# Altium footprint library PCB - LEADLESS - MISC - EPC 2022 Q2a.PcbLib: 35 footprints (part 3 of 3)
Each footprint in its own frame and in the unit in brackets; x right, y up, seen from the top. Pads: shape width x height; smd on the part's side, far side on the other; paste and mask are expansions set on the pad; w line width, h text height; cw(c..) or ccw(c..) is an arc to the next point about the centre after c.
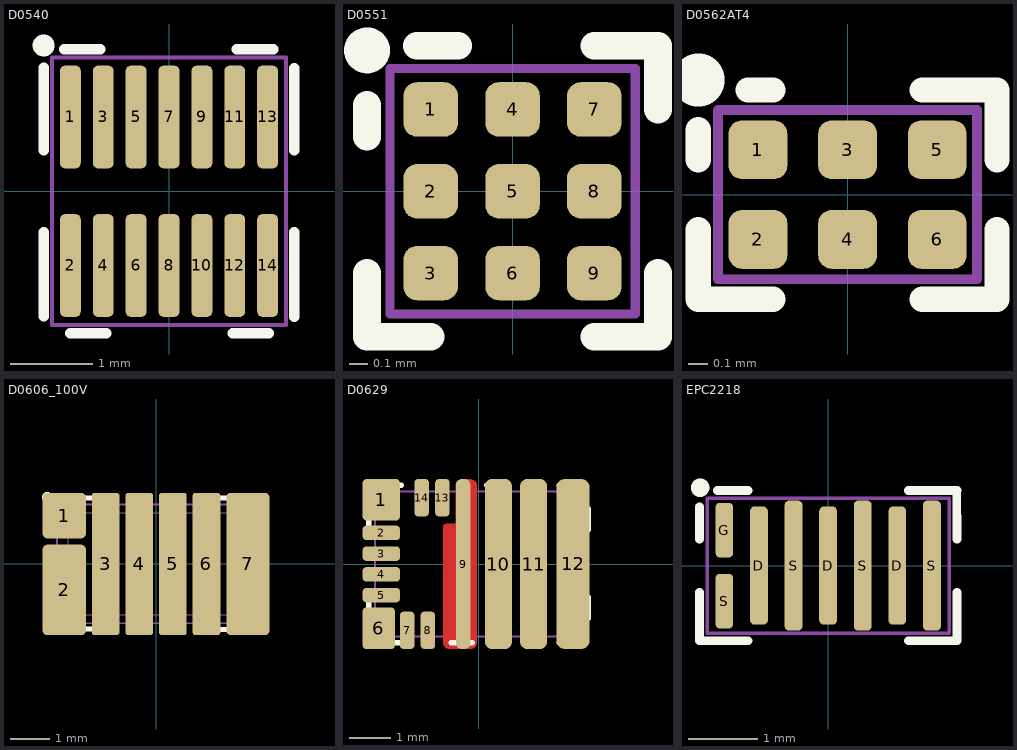
[diagram p2: the footprints below, top view; thin cyan lines are the x and y axes]

## D0540 [mm] "EPC2067"
height 0.8
pads (28):
  rrect50% 0.254x1.249 smd paste-0.037 mask-0.274: 1(-1.2,0.903) 2(-1.2,-0.903) 3(-0.8,0.903) 4(-0.8,-0.903) 5(-0.4,0.903) 7(0,0.903) 8(0,-0.903) 9(0.4,0.903) 10(0.4,-0.903) 11(0.8,0.903) 12(0.8,-0.903) 13(1.2,0.903) 14(1.2,-0.903)
  rrect50% 0.254x1.249 smd paste-0.037 mask-0.24: 6(-0.4,-0.903)
  oval 0.18x1.175 on Top Solder paste-0.18 mask+0: ""(-1.2,0.903) ""(-1.2,-0.903) ""(-0.8,0.903) ""(-0.8,-0.903) ""(-0.4,0.903) ""(-0.4,-0.903) ""(0,0.903) ""(0,-0.903) ""(0.4,0.903) ""(0.4,-0.903) ""(0.8,0.903) ""(0.8,-0.903) ""(1.2,0.903) ""(1.2,-0.903)
Top Overlay:
  circle w0.254: c-1.525,1.773 r0.006
  lines w0.127: -1.525,-1.522 -1.525,-0.5 ; -1.525,0.5 -1.525,1.5 ; -1.274,1.725 -0.833,1.725 ; -1.203,-1.725 -0.763,-1.725 ; 0.775,-1.725 1.215,-1.725 ; 0.825,1.725 1.265,1.725 ; 1.525,-1.528 1.525,-0.5 ; 1.525,0.5 1.525,1.497
Mechanical 13:
  lines w0.05: -1.425,-1.625 -1.425,1.625 1.425,1.625 1.425,-1.625 -1.425,-1.625
3D body: height 0.2, standoff 0, extent -1.297,-1.49 -1.103,-1.293
3D body: height 0.2, standoff 0, extent -1.305,-1.391 -1.096,-0.416
3D body: height 0.2, standoff 0, extent -1.297,-0.515 -1.103,-0.318
3D body: height 0.2, standoff 0, extent -0.905,-1.391 -0.696,-0.416
3D body: height 0.2, standoff 0, extent -0.097,-0.515 0.097,-0.318
3D body: height 0.2, standoff 0, extent -0.897,-1.49 -0.703,-1.293
3D body: height 0.2, standoff 0, extent -0.505,-1.391 -0.296,-0.416
3D body: height 0.2, standoff 0, extent -0.497,-0.515 -0.303,-0.318
3D body: height 0.2, standoff 0, extent -0.497,-1.49 -0.303,-1.293
3D body: height 0.2, standoff 0, extent -0.105,-1.391 0.104,-0.416
3D body: height 0.2, standoff 0, extent -0.497,0.316 -0.303,0.513
3D body: height 0.2, standoff 0, extent -1.297,0.316 -1.103,0.513
3D body: height 0.2, standoff 0, extent -0.897,-0.515 -0.703,-0.318
3D body: height 0.2, standoff 0, extent -0.897,0.316 -0.703,0.513
3D body: height 0.2, standoff 0, extent -0.097,0.316 0.097,0.513
3D body: height 0.2, standoff 0, extent 0.295,-1.391 0.504,-0.416
3D body: height 0.2, standoff 0, extent 1.103,-1.49 1.297,-1.293
3D body: height 0.2, standoff 0, extent 0.303,-1.49 0.497,-1.293
3D body: height 0.2, standoff 0, extent 0.695,-1.391 0.904,-0.416
3D body: height 0.2, standoff 0, extent 0.703,-1.49 0.897,-1.293
3D body: height 0.2, standoff 0, extent 1.095,-1.391 1.304,-0.416
3D body: height 0.2, standoff 0, extent -1.305,0.415 -1.096,1.39
3D body: height 0.2, standoff 0, extent -1.297,1.291 -1.103,1.488
3D body: height 0.2, standoff 0, extent 0.295,0.415 0.504,1.39
3D body: height 0.79, standoff 0.78, extent -1.349,1.175 -1.05,1.475
3D body: height 0.2, standoff 0, extent -0.905,0.415 -0.696,1.39
3D body: height 0.2, standoff 0, extent -0.897,1.291 -0.703,1.488
3D body: height 0.2, standoff 0, extent 0.303,1.291 0.497,1.488
3D body: height 0.2, standoff 0, extent -0.505,0.415 -0.296,1.39
3D body: height 0.2, standoff 0, extent -0.497,1.291 -0.303,1.488
3D body: height 0.2, standoff 0, extent -0.097,1.291 0.097,1.488
3D body: height 0.2, standoff 0, extent -0.105,0.415 0.104,1.39
3D body: height 0.2, standoff 0, extent 1.103,1.291 1.297,1.488
3D body: height 0.2, standoff 0, extent 0.695,0.415 0.904,1.39
3D body: height 0.2, standoff 0, extent 0.703,1.291 0.897,1.488
3D body: height 0.2, standoff 0, extent 1.095,0.415 1.304,1.39
3D body: height 0.78, standoff 0.1, extent -1.425,-1.627 1.425,1.628
3D body: height 0.2, standoff 0, extent -0.097,-1.49 0.097,-1.293
3D body: height 0.2, standoff 0, extent 0.303,-0.515 0.497,-0.318
3D body: height 0.2, standoff 0, extent 0.303,0.316 0.497,0.513
3D body: height 0.2, standoff 0, extent 1.103,-0.515 1.297,-0.318
3D body: height 0.2, standoff 0, extent 0.703,-0.515 0.897,-0.318
3D body: height 0.2, standoff 0, extent 0.703,0.316 0.897,0.513
3D body: height 0.2, standoff 0, extent 1.103,0.316 1.297,0.513
3D body "3D_EPClogo2_5mm.step": height 0.79, standoff 0.78, extent -1.209,-0.578 1.21,0.513

## D0551 [mm]
height 0.8
pads (18):
  rrect50% 0.3x0.3 smd paste-0.038 mask-0.148: 1(-0.45,0.45) 2(-0.45,0) 3(-0.45,-0.45) 4(0,0.45) 5(0,0) 6(0,-0.45) 7(0.45,0.45) 8(0.45,0) 9(0.45,-0.45)
  rrect50% 0.205x0.205 on Top Solder paste+0 mask+0: ""(-0.45,-0.45) ""(-0.45,0) ""(-0.45,0.45) ""(0,-0.45) ""(0,0) ""(0,0.45) ""(0.45,-0.45) ""(0.45,0) ""(0.45,0.45)
Top Overlay:
  circle w0.152: c-0.8,0.775 r0.05
  lines w0.152: -0.8,-0.45 -0.8,-0.8 -0.45,-0.8 ; -0.8,0.3 -0.8,0.475 ; -0.525,0.8 -0.3,0.8 ; 0.45,-0.8 0.8,-0.8 0.8,-0.45 ; 0.45,0.8 0.8,0.8 0.8,0.45
Mechanical 13:
  lines w0.05: -0.675,-0.675 0.675,-0.675 0.675,0.675 -0.675,0.675 -0.675,-0.675
3D body "3D_EPClogo1_25mm.step": height 0.81, standoff 0.8, extent -0.631,-0.314 0.65,0.264
3D body: height 0.81, standoff 0.8, extent -0.599,0.3 -0.3,0.6
3D body: height 0.8, standoff 0.12, extent -0.675,-0.675 0.675,0.675
3D body: height 0.23, standoff -0.05, extent -0.129,-0.135 0.138,0.136
3D body: height 0.16, standoff 0.09, extent -0.137,-0.137 0.138,0.138
3D body: height 0.16, standoff 0.09, extent -0.587,-0.137 -0.312,0.138
3D body: height 0.23, standoff -0.05, extent -0.579,-0.135 -0.312,0.136
3D body: height 0.16, standoff 0.09, extent 0.313,-0.137 0.588,0.138
3D body: height 0.23, standoff -0.05, extent 0.321,-0.135 0.588,0.136
3D body: height 0.16, standoff 0.09, extent -0.587,-0.587 -0.312,-0.312
3D body: height 0.23, standoff -0.05, extent -0.579,-0.585 -0.312,-0.314
3D body: height 0.16, standoff 0.09, extent -0.137,-0.587 0.138,-0.312
3D body: height 0.23, standoff -0.05, extent -0.129,-0.585 0.138,-0.314
3D body: height 0.16, standoff 0.09, extent 0.313,-0.587 0.588,-0.312
3D body: height 0.23, standoff -0.05, extent 0.321,-0.585 0.588,-0.314
3D body: height 0.16, standoff 0.09, extent 0.313,0.313 0.588,0.588
3D body: height 0.23, standoff -0.05, extent 0.321,0.315 0.588,0.586
3D body: height 0.16, standoff 0.09, extent -0.137,0.313 0.138,0.588
3D body: height 0.23, standoff -0.05, extent -0.129,0.315 0.138,0.586
3D body: height 0.16, standoff 0.09, extent -0.587,0.313 -0.312,0.588
3D body: height 0.23, standoff -0.05, extent -0.579,0.315 -0.312,0.586

## D0562AT4 [mm] "BGA 6 pin, 1.3mm by 0.85mm"
height 0.8
pads (12):
  rrect45% 0.295x0.295 smd paste-0.025 mask-0.135: 1(-0.45,0.225) 2(-0.45,-0.225) 3(0,0.225) 4(0,-0.225) 5(0.45,0.225) 6(0.45,-0.225)
  round 0.225 on Top Solder paste+0 mask+0: ""(-0.45,-0.225) ""(-0.45,0.225) ""(0,-0.225) ""(0,0.225) ""(0.45,-0.225) ""(0.45,0.225)
Top Overlay:
  circle w0.254: c-0.75,0.575 r0.006
  lines w0.127: -0.75,-0.175 -0.75,-0.525 -0.375,-0.525 ; -0.75,0.175 -0.75,0.325 ; -0.5,0.525 -0.375,0.525 ; 0.375,-0.525 0.75,-0.525 0.75,-0.175 ; 0.375,0.525 0.75,0.525 0.75,0.175
Mechanical 13:
  lines w0.05: -0.65,-0.425 -0.65,0.425 0.65,0.425 0.65,-0.425 -0.65,-0.425
3D body: height 0.8, standoff 0.15, extent -0.599,0.075 -0.3,0.375
3D body: height 0.78, standoff 0.1, extent -0.65,-0.425 0.65,0.425
3D body "3D_EPClogo1mm.step": height 0.79, standoff 0.78, extent -0.397,-0.325 0.6,0.125
3D body: height 0.1, standoff 0.04, extent -0.55,-0.325 -0.351,-0.125
3D body: height 0.15, standoff -0.05, extent -0.543,-0.321 -0.352,-0.129
3D body: height 0.15, standoff -0.05, extent -0.543,0.129 -0.352,0.321
3D body: height 0.1, standoff 0.04, extent -0.1,0.125 0.099,0.325
3D body: height 0.1, standoff 0.04, extent -0.1,-0.325 0.099,-0.125
3D body: height 0.1, standoff 0.04, extent 0.35,0.125 0.549,0.325
3D body: height 0.1, standoff 0.04, extent 0.35,-0.325 0.549,-0.125
3D body: height 0.15, standoff -0.05, extent -0.092,-0.321 0.098,-0.129
3D body: height 0.15, standoff -0.05, extent 0.357,-0.321 0.548,-0.129
3D body: height 0.15, standoff -0.05, extent 0.357,0.129 0.548,0.321
3D body: height 0.15, standoff -0.05, extent -0.092,0.129 0.098,0.321
3D body: height 0.1, standoff 0.04, extent -0.55,0.125 -0.351,0.325

## D0606_100V [mm] "EPC2301"
height 0.65
pads (29):
  rrect20% 1.091x1.15 smd paste-1 mask-1: 1(-2.321,1.222)
  rrect20% 1.091x2.29 smd paste-1 mask-1: 2(-2.321,-0.658)
  rrect20% 0.7x3.6 smd paste-1 mask-1: 3(-1.275,0) 4(-0.425,0) 5(0.425,0) 6(1.275,0)
  rrect20% 1.091x3.6 smd paste-1 mask-1: 7(2.321,0)
  rrect50% 0.7x0.37 on Top Solder paste-1 mask-1: ""(-2.351,-0.975) ""(-2.351,-0.325) ""(-2.351,0.975) ""(2.351,-0.975) ""(2.351,-0.325) ""(2.351,0.325) ""(2.351,0.975)
  rrect50% 0.76x0.37 on Top Solder paste-1 mask-1: ""(-2.321,0.225)
  rrect50% 0.65x2 on Top Paste paste-1 mask-1: ""(-2.31,-0.64)
  rrect50% 0.6x0.875 on Top Paste paste-1 mask-1: ""(-2.31,1.237)
  rrect50% 0.47x2.075 on Top Solder paste-1 mask-1: ""(-2.175,-0.663)
  rrect50% 0.47x0.985 on Top Solder paste-1 mask-1: ""(-2.175,1.207)
  rrect50% 0.37x3.4 on Top Solder paste-1 mask-1: ""(-1.275,0) ""(-0.425,0) ""(0.425,0) ""(1.275,0)
  rrect50% 0.28x3.32 on Top Paste paste-1 mask-1: ""(-1.275,0) ""(-0.425,0) ""(0.425,0) ""(1.275,0)
  rrect50% 0.47x3.4 on Top Solder paste-1 mask-1: ""(2.175,0)
  rrect50% 0.61x3.32 on Top Paste paste-1 mask-1: ""(2.32,0)
Top Overlay:
  circle w0.254: c-2.749,1.69 r0.006
  lines w0.127: -2.722,-1.558 -2.722,-1.273 ; -2.722,1.277 -2.722,1.399 ; -1.794,-1.65 -1.593,-1.65 ; -1.779,1.663 -1.577,1.663 ; 1.577,-1.663 1.778,-1.663 ; 1.577,1.663 1.778,1.663 ; 2.746,-1.646 2.745,-1.302 ; 2.746,1.307 2.746,1.667
Mechanical 13:
  lines w0.01: -2.225,-1.29 -2.225,1.29 2.225,1.29 2.225,-1.29 -2.225,-1.29
  lines w0.013: -2.325,1.5 -2.025,1.5 ; -2.235,0.375 -2.115,0.375 ; -2.5,-1.1 -2.5,-0.85 -2.4,-0.85 ccw(c-2.4,-0.8) -2.35,-0.8 -2.35,-0.5 ccw(c-2.4,-0.5) -2.4,-0.45 -2.5,-0.45 -2.5,-0.2 -2.4,-0.2 ccw(c-2.4,-0.15) -2.35,-0.15 -2.35,0.05 ccw(c-2.4,0.05) -2.4,0.1 -2.5,0.1 -2.5,0.35 -2.316,0.35 cw(c-2.25,0.275) -2.25,0.375 -2.1,0.375 cw(c-2.1,0.275) -2,0.275 -2,-1.5 -2.35,-1.5 -2.35,-1.15 ccw(c-2.4,-1.15) -2.4,-1.1 -2.5,-1.1 ; -2.5,0.865 -2.5,1.085 -2.4,1.085 ccw(c-2.4,1.135) -2.35,1.135 -2.35,1.5 -2,1.5 -2,0.94 -2.165,0.775 -2.25,0.775 cw(c-2.25,0.875) -2.349,0.865 -2.5,0.865 ; -2.325,-1.5 -2.025,-1.5 -2.325,-1.5 ; -1.4,-1.5 -1.4,1.5 -1.15,1.5 -1.15,-1.5 -1.4,-1.5 ; -0.55,-1.5 -0.55,1.5 -0.3,1.5 -0.3,-1.5 -0.55,-1.5 ; 0.3,-1.5 0.3,1.5 0.55,1.5 0.55,-1.5 0.3,-1.5 ; 1.15,-1.5 1.15,1.5 1.4,1.5 1.4,-1.5 1.15,-1.5 ; 2,-1.5 2.35,-1.5 2.35,-1.135 cw(c2.385,-1.135) 2.385,-1.1 2.5,-1.1 2.5,-0.85 2.385,-0.85 cw(c2.385,-0.815) 2.35,-0.815 2.35,-0.485 cw(c2.385,-0.485) 2.385,-0.45 2.5,-0.45 2.5,-0.2 2.385,-0.2 cw(c2.385,-0.165) 2.35,-0.165 2.35,0.165 cw(c2.385,0.165) 2.385,0.2 2.5,0.2 2.5,0.45 2.385,0.45 cw(c2.385,0.485) 2.35,0.485 2.35,0.815 cw(c2.385,0.815) 2.385,0.85 2.5,0.85 2.5,1.1 2.385,1.1 cw(c2.385,1.135) 2.35,1.135 2.35,1.5 2,1.5 2,-1.5
  lines w0.05: -2.5,-1.5 2.5,-1.5 2.5,1.5 -2.5,1.5 -2.5,-1.5
3D body "3D_EPClogo4mm.step": height 0.76, standoff 0.75, extent -1.892,-0.875 2.092,0.923
3D body: height 0.75, standoff 0.75, extent -1.954,0.77 -1.655,1.07
3D body: height 0.75, standoff 0.2, extent -2.225,-1.29 2.225,1.29
3D body: height 0.25, standoff 0, extent -2,-1.5 -2,-1.5
3D body: height 0.25, standoff 0.05, extent -1.4,-1.5 -1.15,1.5
3D body: height 0.25, standoff 0.05, extent -0.55,-1.5 -0.3,1.5
3D body: height 0.25, standoff 0.05, extent 0.3,-1.5 0.55,1.5
3D body: height 0.25, standoff 0.05, extent 1.15,-1.5 1.4,1.5
3D body: height 0.65, standoff 0.15, extent -2.475,-1.475 2.472,1.476
3D body: height 0.25, standoff 0.05, extent -2.5,0.775 -2,1.5
3D body: height 0.25, standoff 0.05, extent 2,-1.5 2.5,1.5
3D body: height 0.25, standoff 0.05, extent -2.5,-1.5 -2,0.375

## D0629 [mm]
pads (44):
  rrect20% 0.9x1 smd paste-1 mask-1: 1(-2.35,1.55)
  rrect50% 0.9x0.35 smd paste-1 mask-1: 2(-2.35,0.75) 3(-2.35,0.25) 4(-2.35,-0.25) 5(-2.35,-0.75)
  rrect20% 0.775x1 smd paste-1 mask-1: 6(-2.412,-1.55)
  rrect50% 0.35x0.9 smd paste-1 mask-1: 7(-1.725,-1.6) 8(-1.225,-1.6) 13(-0.875,1.6) 14(-1.375,1.6)
  rrect80% 0.35x4.1 smd paste-1 mask-1: 9(-0.375,0)
  rrect50% 0.65x4.1 smd paste-1 mask-1: 10(0.475,0) 11(1.325,0)
  rrect50% 0.8x4.1 smd paste-1 mask-1: 12(2.275,0)
  rrect50% 0.4x0.25 on Top Paste paste-1 mask-1: ""(-2.32,0.25) ""(-2.3,-0.75) ""(-2.3,-0.25) ""(-2.3,0.75)
  rrect50% 0.52x0.35 on Top Solder paste-1 mask-1: ""(-2.3,-1.25) ""(-2.3,1.25)
  rrect50% 0.52x0.3 on Top Solder paste-1 mask-1: ""(-2.3,-0.75) ""(-2.3,-0.25) ""(-2.3,0.75) ""(-2.3,0.25)
  rrect50% 0.336x0.5 on Top Paste paste-1 mask-1: ""(-2.275,1.375) ""(-2.213,-1.325)
  rrect50% 0.32x0.52 on Top Solder paste-1 mask-1: ""(-2.2,-1.53) ""(-2.2,1.53)
  rrect50% 0.3x0.52 on Top Solder paste-1 mask-1: ""(-1.725,-1.55) ""(-1.375,1.55) ""(-1.225,-1.55) ""(-0.875,1.55)
  rrect50% 0.25x0.4 on Top Paste paste-1 mask-1: ""(-1.725,-1.55) ""(-1.375,1.55) ""(-1.225,-1.55) ""(-0.875,1.55)
  rrect50% 0.3x3.62 on Top Solder paste-1 mask-1: ""(-0.375,0)
  rrect50% 0.25x3.5 on Top Paste paste-1 mask-1: ""(-0.375,0) ""(0.475,0) ""(1.325,0)
  rrect50% 0.37x3.62 on Top Solder paste-1 mask-1: ""(0.475,0) ""(1.325,0)
  rrect50% 0.336x3.5 on Top Paste paste-1 mask-1: ""(2.218,0)
  rrect50% 0.6x3.62 on Top Solder paste-1 mask-1: ""(2.275,0)
Top Layer:
  region: -0.05,1.894 -0.05,1.925 -0.074,1.982 -0.118,2.026 -0.175,2.05 -0.206,2.05 -0.394,2.05 -0.425,2.05 -0.482,2.026 -0.526,1.982 -0.55,1.925 -0.55,1.894 -0.55,1.025 -0.551,1.015 -0.558,0.997 -0.572,0.983 -0.59,0.976 -0.6,0.975 -0.772,0.975 -0.787,0.975 -0.816,0.963 -0.838,0.941 -0.85,0.912 -0.85,0.897 -0.85,-1.9 -0.85,-1.93 -0.827,-1.985 -0.785,-2.027 -0.73,-2.05 -0.7,-2.05 -0.2,-2.05 -0.17,-2.05 -0.115,-2.027 -0.073,-1.985 -0.05,-1.93 -0.05,-1.9
Top Overlay:
  circle w0.254: c-2.65,1.9 r0.006
  lines w0.127: -2.65,-1.363 -2.65,-0.848 ; -2.65,0.916 -2.65,1.381 ; -2.38,-1.9 -1.865,-1.9 ; -2.304,1.9 -1.864,1.9 ; -0.666,-1.9 -0.151,-1.9 ; 0.187,1.9 0.702,1.9 ; 1.945,-1.9 2.37,-1.9 ; 1.945,1.9 2.37,1.9 ; 2.65,-1.313 2.65,-0.798 ; 2.65,0.822 2.65,1.337
Mechanical 13:
  lines w0.013: -2.5,-1.375 -2.3,-1.375 -2.3,-1.75 -2.1,-1.75 -2.1,-1.25 ccw(c-2.225,-1.25) -2.225,-1.125 -2.5,-1.125 -2.5,-1.375 ; -2.5,-0.875 -2.225,-0.875 ccw(c-2.225,-0.75) -2.225,-0.625 -2.5,-0.625 -2.5,-0.875 ; -2.5,-0.375 -2.225,-0.375 ccw(c-2.225,-0.25) -2.225,-0.125 -2.5,-0.125 -2.5,-0.375 ; -2.5,0.125 -2.225,0.125 ccw(c-2.225,0.25) -2.225,0.375 -2.5,0.375 -2.5,0.125 ; -2.5,0.625 -2.225,0.625 ccw(c-2.225,0.75) -2.225,0.875 -2.5,0.875 -2.5,0.625 ; -2.5,1.125 -2.225,1.125 ccw(c-2.225,1.25) -2.1,1.25 -2.1,1.75 -2.3,1.75 -2.3,1.375 -2.5,1.375 -2.5,1.125 ; -1.85,-1.75 -1.85,-1.475 cw(c-1.725,-1.475) -1.6,-1.475 -1.6,-1.75 -1.85,-1.75 ; -1.5,1.475 ccw(c-1.375,1.475) -1.25,1.475 -1.25,1.75 -1.5,1.75 -1.5,1.475 ; -1.35,-1.75 -1.35,-1.475 cw(c-1.225,-1.475) -1.1,-1.475 -1.1,-1.75 -1.35,-1.75 ; -1,1.475 ccw(c-0.875,1.475) -0.75,1.475 -0.75,1.75 -1,1.75 -1,1.475 ; -0.5,-1.75 -0.5,1.75 -0.25,1.75 -0.25,-1.75 -0.5,-1.75 ; 0.35,-1.75 0.35,1.75 0.6,1.75 0.6,-1.75 0.35,-1.75 ; 1.2,-1.75 1.2,1.75 1.45,1.75 1.45,-1.75 1.2,-1.75 ; 2.05,-1.75 2.05,1.75 2.3,1.75 2.3,1.41 ccw(c2.335,1.41) 2.335,1.375 2.5,1.375 2.5,1.125 2.335,1.125 ccw(c2.335,1.09) 2.3,1.09 2.3,0.91 ccw(c2.335,0.91) 2.335,0.875 2.5,0.875 2.5,0.625 2.335,0.625 ccw(c2.335,0.59) 2.3,0.59 2.3,0.41 ccw(c2.335,0.41) 2.335,0.375 2.5,0.375 2.5,0.125 2.335,0.125 ccw(c2.335,0.09) 2.3,0.09 2.3,-0.09 ccw(c2.335,-0.09) 2.335,-0.125 2.5,-0.125 2.5,-0.375 2.335,-0.375 ccw(c2.335,-0.41) 2.3,-0.41 2.3,-0.59 ccw(c2.335,-0.59) 2.335,-0.625 2.5,-0.625 2.5,-0.875 2.335,-0.875 ccw(c2.335,-0.91) 2.3,-0.91 2.3,-1.09 ccw(c2.335,-1.09) 2.335,-1.125 2.5,-1.125 2.5,-1.375 2.335,-1.375 ccw(c2.335,-1.41) 2.3,-1.41 2.3,-1.75 2.05,-1.75
  lines w0.05: -2.5,-1.75 -2.5,1.75 2.5,1.75 2.5,-1.75 -2.5,-1.75
3D body: height 0.25, standoff 0.05, extent -2.5,1.125 -2.1,1.75
3D body: height 0.25, standoff 0.05, extent -2.5,-1.75 -2.1,-1.125
3D body: height 0.25, standoff 0.05, extent -1.35,-1.75 -1.1,-1.35
3D body: height 0.25, standoff 0.05, extent -1.85,-1.75 -1.6,-1.35
3D body: height 0.25, standoff 0.05, extent -2.5,-0.875 -2.1,-0.625
3D body: height 0.25, standoff 0.05, extent -2.5,-0.375 -2.1,-0.125
3D body: height 0.25, standoff 0.05, extent -2.5,0.125 -2.1,0.375
3D body: height 0.25, standoff 0.05, extent -2.5,0.625 -2.1,0.875
3D body: height 0.25, standoff 0.05, extent -1,1.35 -0.75,1.75
3D body: height 0.25, standoff 0.05, extent -1.5,1.35 -1.25,1.75
3D body: height 0.25, standoff 0.05, extent 2.05,-1.75 2.5,1.75
3D body: height 0.75, standoff 0.2, extent -2.25,-1.321 2.25,1.321
3D body "3D_EPClogo3mm.step": height 0.76, standoff 0.75, extent -1.394,-0.666 1.594,0.683
3D body: height 0.25, standoff 0.05, extent 1.2,-1.75 1.45,1.75
3D body: height 0.25, standoff 0.05, extent 0.35,-1.75 0.6,1.75
3D body: height 0.25, standoff 0.05, extent -0.5,-1.75 -0.25,1.75
3D body: height 0.75, standoff 0.75, extent -1.954,1.021 -1.655,1.32
3D body: height 0.65, standoff 0.15, extent -2.476,-1.728 2.475,1.722

## EPC2218 [mm]
height 0.638
pads (24):
  rrect50% 0.257x1.705 smd paste-1 mask-1: D(-1,0) D(0,0) D(1,0)
  rrect50% 0.257x0.79 smd paste-1 mask-1: G(-1.5,0.513) S(-1.5,-0.513)
  rrect50% 0.257x1.88 smd paste-1 mask-1: S(-0.5,0) S(0.5,0) S(1.5,0)
  oval 0.23x0.755 on Top Solder mask-1: ""(-1.5,-0.513) ""(-1.5,0.513)
  rrect50% 0.23x0.755 on Top Paste mask-1: ""(-1.5,-0.513) ""(-1.5,0.513)
  oval 0.23x1.605 on Top Solder mask-1: ""(-1,0) ""(0,0) ""(1,0)
  rrect50% 0.23x1.605 on Top Paste mask-1: ""(-1,0) ""(0,0) ""(1,0)
  oval 0.23x1.78 on Top Solder mask-1: ""(-0.5,0) ""(0.5,0) ""(1.5,0)
  rrect50% 0.23x1.78 on Top Paste mask-1: ""(-0.5,0) ""(0.5,0) ""(1.5,0)
Top Overlay:
  circle w0.254: c-1.85,1.125 r0.006
  lines w0.127: -1.86,-0.385 -1.86,-1.085 -1.16,-1.085 ; -1.86,0.385 -1.86,0.85 ; -1.599,1.085 -1.158,1.085 ; 1.16,-1.085 1.86,-1.085 1.86,-0.385 ; 1.16,1.085 1.86,1.085 ; 1.858,1.085 1.86,0.385
Mechanical 13:
  lines w0.05: -1.75,-0.975 -1.75,0.975 1.75,0.975 1.75,-0.975 -1.75,-0.975
3D body: height 0.64, standoff 0.12, extent -1.75,-0.975 1.75,0.975
3D body: height 0.25, standoff 0, extent 0.879,0.565 1.121,0.811
3D body: height 0.25, standoff 0, extent 0.879,-0.811 1.121,-0.565
3D body: height 0.25, standoff 0, extent 0.875,-0.688 1.124,0.687
3D body: height 0.25, standoff 0, extent 1.375,-0.775 1.624,0.775
3D body: height 0.25, standoff 0, extent 1.379,-0.898 1.621,-0.652
3D body: height 0.25, standoff 0, extent 1.379,0.652 1.621,0.898
3D body: height 0.25, standoff 0, extent -0.121,0.565 0.121,0.811
3D body: height 0.25, standoff 0, extent -0.121,-0.811 0.121,-0.565
3D body: height 0.25, standoff 0, extent -0.125,-0.688 0.124,0.687
3D body: height 0.25, standoff 0, extent 0.375,-0.775 0.624,0.775
3D body: height 0.25, standoff 0, extent 0.379,-0.898 0.621,-0.652
3D body: height 0.25, standoff 0, extent 0.379,0.652 0.621,0.898
3D body: height 0.25, standoff 0, extent -0.621,0.652 -0.379,0.898
3D body: height 0.25, standoff 0, extent -0.621,-0.898 -0.379,-0.652
3D body: height 0.25, standoff 0, extent -0.625,-0.775 -0.376,0.775
3D body: height 0.25, standoff 0, extent -1.125,-0.688 -0.876,0.687
3D body: height 0.25, standoff 0, extent -1.121,-0.811 -0.879,-0.565
3D body: height 0.25, standoff 0, extent -1.121,0.565 -0.879,0.811
3D body: height 0.25, standoff 0, extent -1.625,0.251 -1.376,0.775
3D body: height 0.25, standoff 0, extent -1.621,0.127 -1.379,0.374
3D body: height 0.25, standoff 0, extent -1.621,0.652 -1.379,0.899
3D body: height 0.65, standoff 0.64, extent -1.649,0.6 -1.351,0.9
3D body: height 0.25, standoff 0, extent -1.621,-0.374 -1.379,-0.127
3D body: height 0.25, standoff 0, extent -1.621,-0.899 -1.379,-0.652
3D body: height 0.25, standoff 0, extent -1.625,-0.775 -1.376,-0.251
3D body "3D_EPClogo3mm.step": height 0.64, standoff 0.64, extent -1.394,-0.65 1.594,0.699